# Altium schematic symbol library SCH - DRIVER - LED - TI LM3492-Q1PWP.SchLib: 1 symbol
Pins are listed as number, name and electrical type; pins without a type are passive.

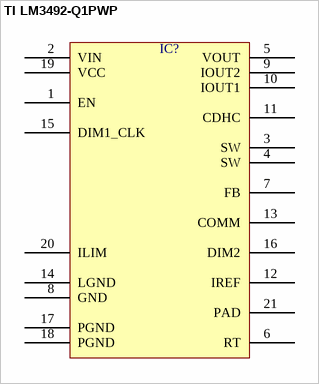
[diagram p0: symbol TI LM3492-Q1PWP]

## TI LM3492-Q1PWP
designator IC?  (value not drawn)
pins: 1 EN, 2 VIN, 3 SW, 4 SW, 5 VOUT, 6 RT, 7 FB, 8 GND, 9 IOUT2, 10 IOUT1, 11 CDHC, 12 IREF, 13 COMM, 14 LGND, 15 DIM1_CLK, 16 DIM2, 17 PGND, 18 PGND, 19 VCC, 20 ILIM, 21 PAD